# Altium schematic symbol library SP3485.SchLib: 1 symbol
Pins are listed as number, name and electrical type; pins without a type are passive.

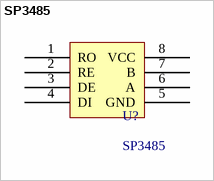
[diagram p0: symbol SP3485]

## SP3485
designator U?
TTL-485
footprint MAX487 (485通信转换芯片)
pins: 1 RO, 2 RE, 3 DE, 4 DI, 5 GND, 6 A, 7 B, 8 VCC